# Altium footprint library 16.Sound_devices.PcbLib: 7 footprints
Each footprint in its own frame and in the unit in brackets; x right, y up, seen from the top. Pads: shape width x height; smd on the part's side, far side on the other; paste and mask are expansions set on the pad; w line width, h text height; cw(c..) or ccw(c..) is an arc to the next point about the centre after c.
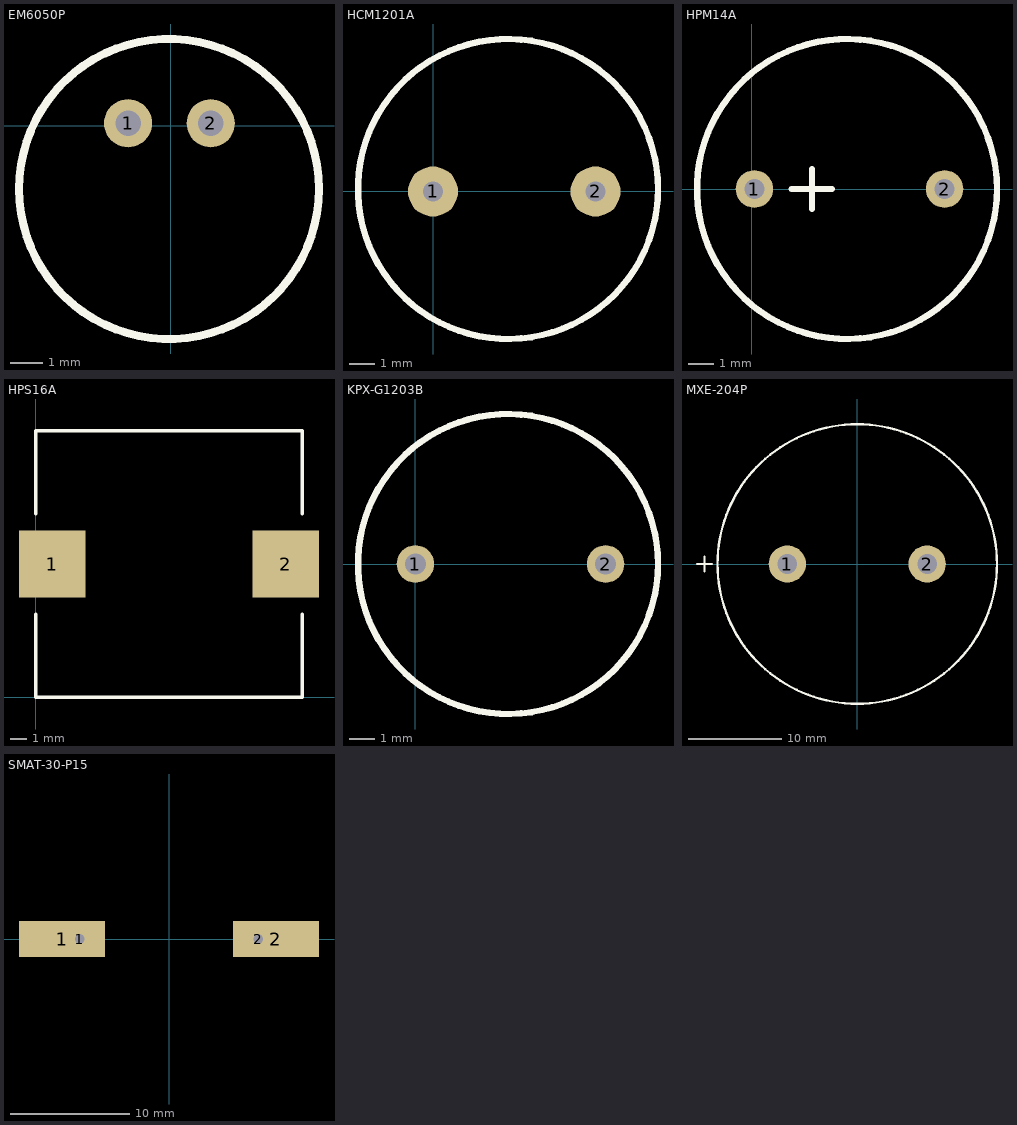
[diagram p0: the footprints below, top view; thin cyan lines are the x and y axes]

## EM6050P [mm]
pads (2):
  round 1.5 hole 0.8: 1(-1.325,0.075) 2(1.25,0.075)
Top Overlay:
  circle w0.254: c-0.05,-1.975 r4.675
3D body "User Library-Panasonic_Microphone_WM52BM.step": height 5.15, standoff -4.02, extent -4.875,-6.775 4.825,2.925

## HCM1201A [mm]
pads (2):
  round 2 hole 0.8: 1(0,0) 2(6.5,0)
Top Overlay:
  circle w0.254: c3,0.1 r6

## HPM14A [mm]
pads (2):
  round 1.5 hole 0.8: 1(0.1,0) 2(7.7,0)
Top Overlay:
  circle w0.254: c3.8,0 r5.993
  lines w0.256: 1.6,0 3.2,0 ; 2.4,-0.8 2.4,0.8
3D body "User Library-HCM1206X.step": height 9.6, standoff -6.4, extent -2.1,-6 9.9,6

## HPS16A [mm]
pads (2):
  rect 4x4 smd: 1(1,8) 2(15,8)
Top Overlay:
  lines w0.2: 0,5 0,0 16,0 16,5 ; 0,11 0,16 16,16 16,11
3D body: height 3.3, standoff 0.2, extent 0,0 16,16
3D body: height 0.2, standoff 0, extent 13,7 16,9
3D body: height 0.2, standoff 0, extent 0,7 3,9

## KPX-G1203B [mm]
pads (2):
  round 1.5 hole 0.85: 1(0,0) 2(7.6,0)
Top Overlay:
  circle w0.254: c3.7,0 r5.993
3D body "User Library-HCM1206X.step": height 9.6, standoff -6.4, extent -2.2,-6 9.8,6

## MXE-204P [mm]
pads (2):
  round 4 hole 2.1: 1(-7.5,0) 2(7.5,0)
Top Overlay:
  circle w0.254: c0,0 r15
  lines w0.256: -17.2,0 -15.6,0 ; -16.4,-0.8 -16.4,0.8
3D body "MXE-204P.STEP": height 12.8, standoff -6.9, extent -14.9,-14.9 14.9,14.9

## SMAT-30-P15 [mm]
pads (4):
  rect 7.25x3 smd: 1(-9,0) 2(9,0)
  round 1.524 hole 0.8: 1(-7.5,0) 2(7.5,0)
3D body "SMAT-30-P15.stp": height 10.11, standoff -5.9, extent -14.997,-15.01 15.003,14.99